# Altium schematic symbol library SCH - AMP - TI TPA3110D2PWP.Schlib: 1 symbol
Pins are listed as number, name and electrical type; pins without a type are passive.

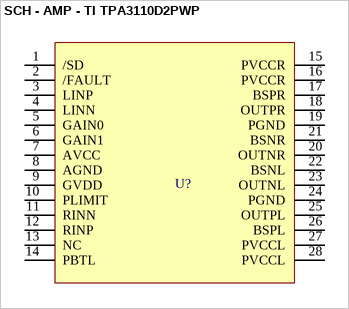
[diagram p0: symbol SCH - AMP - TI TPA3110D2PWP]

## SCH - AMP - TI TPA3110D2PWP
designator U?
footprint TI-PWP28-5720X1950TP_N (SOP, 28-Leads, Body 9.8x4.5mm, Pitch 0.65mm, Thermal Pad 6.17x2.4mm, IPC Medium Density)
footprint TI-PWP28-5720X1950TP_L (SOP, 28-Leads, Body 9.8x4.5mm, Pitch 0.65mm, Thermal Pad 6.17x2.4mm, IPC High Density)
footprint TI-PWP28-5720X1950TP_M (SOP, 28-Leads, Body 9.8x4.5mm, Pitch 0.65mm, Thermal Pad 6.17x2.4mm, IPC Low Density)
pins: 1 /SD "Right line output (+)", 2 /FAULT "Audio serial data bus bit clock input/output", 3 LINP "Audio serial data bus word clock inout/output", 4 LINN "Audio serial data bus data input", 5 GAIN0 "Audio serial data bus data output", 6 GAIN1 "Digital core I/O ground supply,0V", 7 AVCC "Digital I/O voltage supply,1.1V-3.6V", 8 AGND "I2C serial clock input", 9 GVDD "I2C serial data input/output", 10 PLIMIT "Left input 1(SE) or left input + (diff)", 11 RINN "Left input-(diff only)", 12 RINP "Right input 1(SE) or right input + (diff)", 13 NC "Right input- (diff only)", 14 PBTL "Left input 2(SE);can support microphone detection", 15 PVCCR "Microphone bias voltage output", 16 PVCCR "Right input 2 (SE)", 17 BSPR "Analog ADC ground supply,0V", 18 OUTPR "Analog ADC and output driver voltage supply,2.7V-3.6V", 19 PGND "High-power output driver(left+)", 20 OUTNR "High-power output driver(left- or multi-functional)", 21 BSNR "Analog output driver ground supply,0V", 22 BSNL "High-power output driver (right- or multi-functional)", 23 OUTNL "High-power output driver(right+)", 24 PGND "Analog output driver voltage supply,2.7V-3.6V", 25 OUTPL "Analog DAC voltage supply,2.7V-3.6V", 26 BSPL "Analog DAC ground supply,0V", 27 PVCCL "Left line output(+)", 28 PVCCL "Left line output(-)"